# Altium footprint library SMA_Side.PcbLib: 1 footprints
Each footprint in its own frame and in the unit in brackets; x right, y up, seen from the top. Pads: shape width x height; smd on the part's side, far side on the other; paste and mask are expansions set on the pad; w line width, h text height; cw(c..) or ccw(c..) is an arc to the next point about the centre after c.
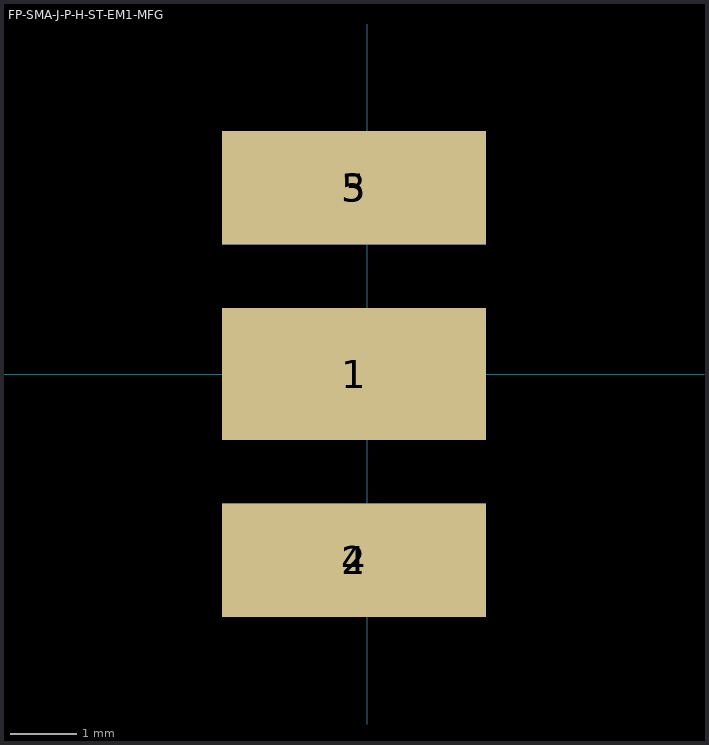
[diagram p0: the footprint, top view; thin cyan lines are the x and y axes]

## FP-SMA-J-P-H-ST-EM1-MFG [mm]
pads (5):
  rect 4x2 smd paste+0 mask+0: 1(-0.2,0)
  rect 4x1.716 smd paste+0 mask+0: 2(-0.2,-2.825) 3(-0.2,2.825)
  rect 4x1.716 smd far side paste+0 mask+0: 4(-0.2,-2.825) 5(-0.2,2.825)
3D body "Conn_Samtec_SMA-J-P-H-ST-EM1_eec.STEP": height 0.25, standoff 0, extent -2.555,-3.6 11.43,3.6